# EAGLE library part 615008140421 (library WR-MJ)
WR-MJ Cat 3 Modular Jacks – THT Characteristics Shieldingless and Shielded with EMI-Spring option Optional LEDs in various sequences Vertical and Horizontal orientation Stacked and assembled configurations Tray Packaging Properties PoE++ Compatible up to 100W (IEEE 802.3bt) UL and cULus-Certified UL94-V0 insulator material Ethernet Category 3 – Category 5 under conditions Applications Networks Internet of Things mart Buildings <https://www.we-online.com/components/media/o863419v209%20multi-WR-MJTH-615002138421.jpg> Details see: www.we-online.com/en/components/products/WR_MJ_MODULAR_JACKS_THT <www.we-online.com/catalog/WR_MJ_MODULAR_JACKS_THT/?utm_source=eagle_model&utm_medium=description_link&utm_campaign=eisos_eagle> Updated by Yingchun Shan 2020-01-06 2020(C) Würth Elektronik
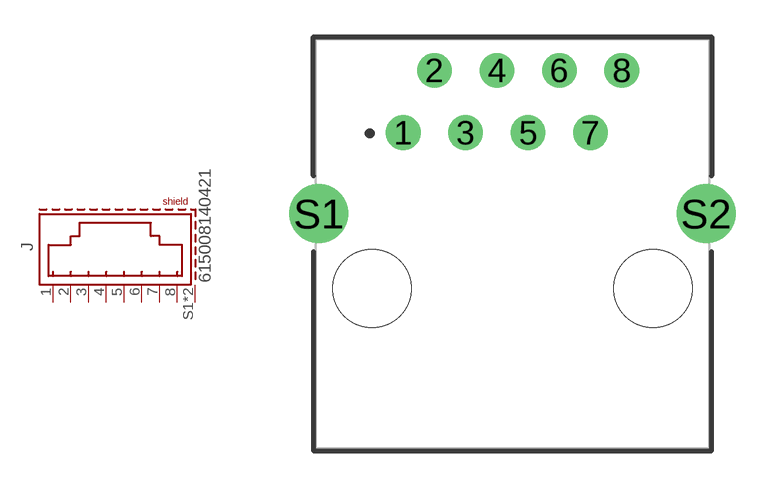
[diagram p30: symbol with the pads of 615008140421; footprint 615008140421]

Designator prefix J

## 615008140421 (APPLICATION-SYSTEM: CAT 3; DATASHEET-URL: https://www.we-online.com/redexpert/spec/615008140421?ae; EMI: No; LED: /; MOUNT: THT; PART-NUMBER: 615008140421; SIZE: Vertical; VALUE: 615008140421; XPXC: 8P8C)  [615008140421]
1  8  pas
2  7  pas
3  6  pas
4  5  pas
5  4  pas
6  3  pas
7  2  pas
8  1  pas
S1  SHIELD  pas
S2  SHIELD  pas

## Footprint 615008140421 (pad centres in mm)
WR-MJ Vertical Shielded 8P8C Rear Post Modular Jack, 8 pins
drill 0.9: 1 -4.445,4.524; 2 -3.175,7.064; 3 -1.905,4.524; 4 -0.635,7.064; 5 0.635,4.524; 6 1.905,7.064; 7 3.175,4.524; 8 4.445,7.064
drill 1.6: S1 -7.875,1.224; S2 7.875,1.224
hole 3.17 at -5.715,-1.826
hole 3.17 at 5.715,-1.826